# Altium footprint library PcbLib1.PcbLib: 21 footprints (part 1 of 2)
Each footprint in its own frame and in the unit in brackets; x right, y up, seen from the top. Pads: shape width x height; smd on the part's side, far side on the other; paste and mask are expansions set on the pad; w line width, h text height; cw(c..) or ccw(c..) is an arc to the next point about the centre after c.
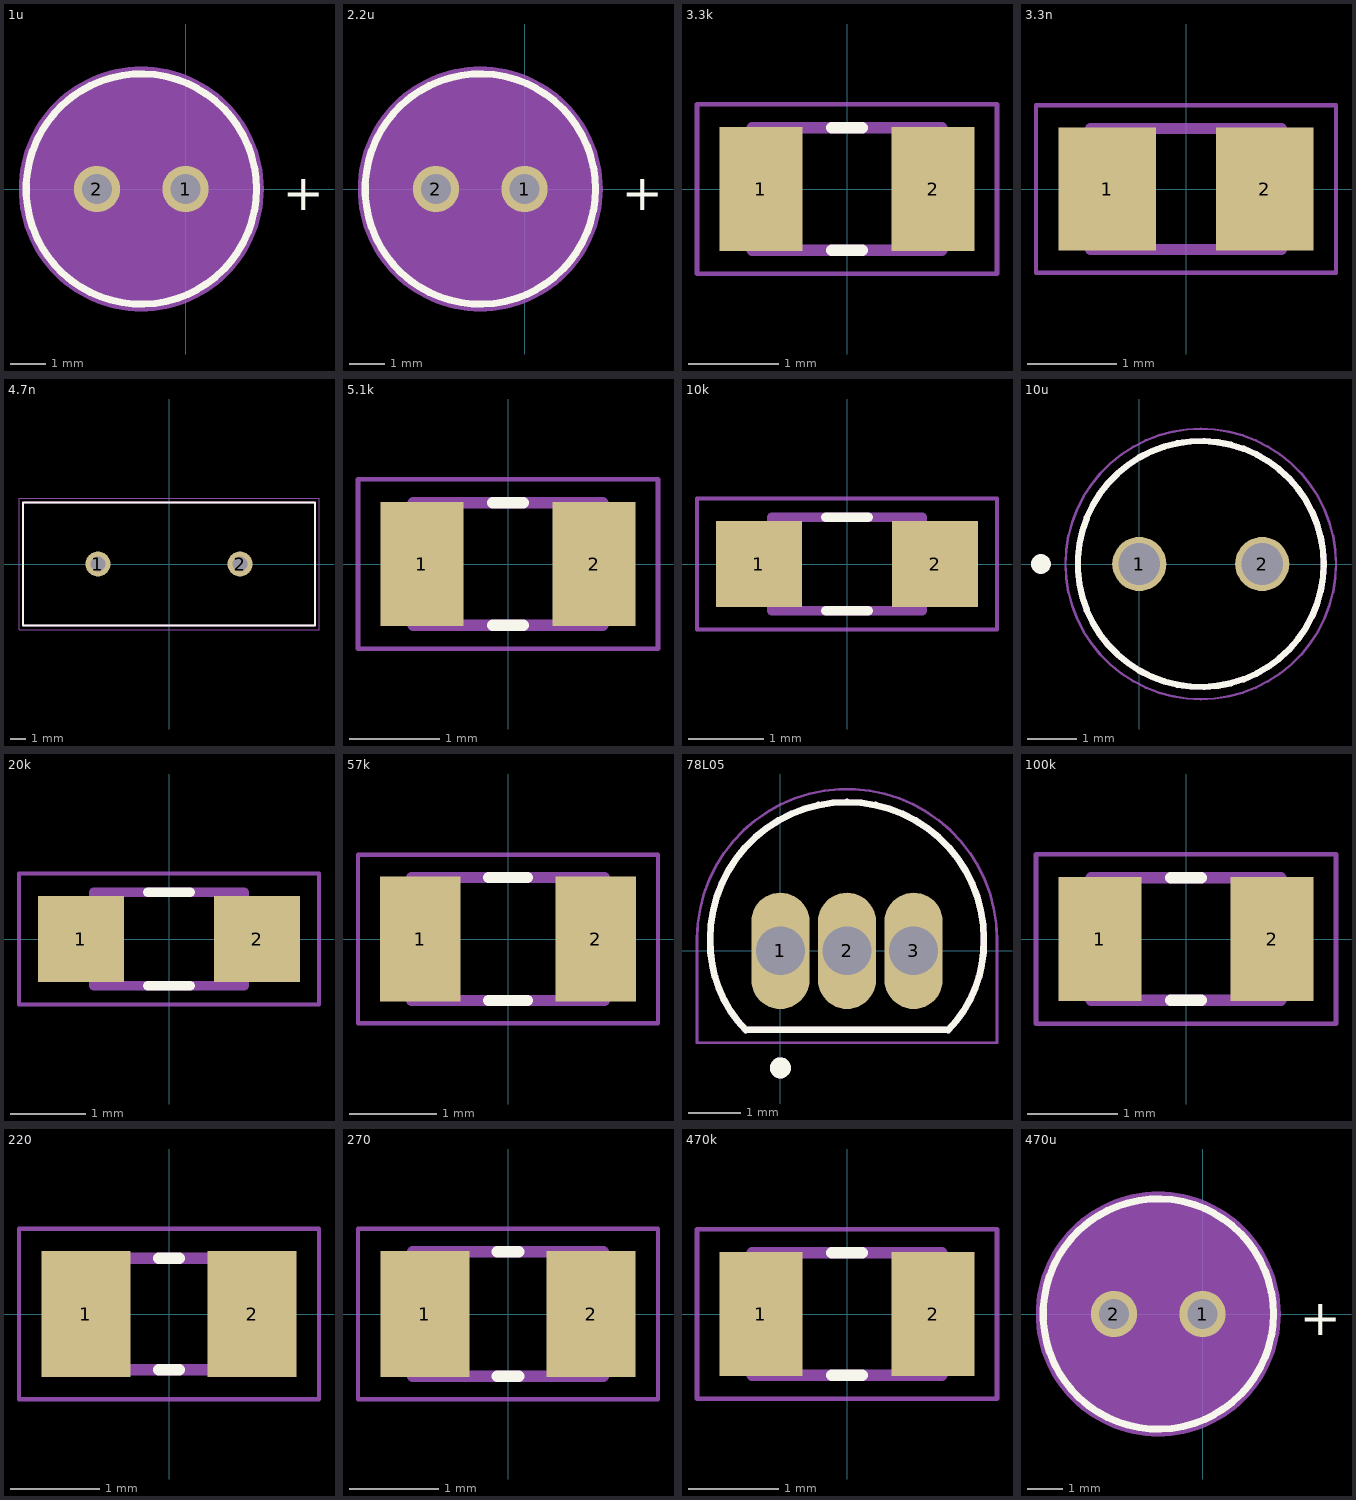
[diagram p0: the footprints below, top view; thin cyan lines are the x and y axes]

## 1u [mm]
pads (2):
  round 1.308 hole 0.85 mask+0.102: 1(0,0) 2(-2.5,0)
Top Overlay:
  circle w0.2: c-1.25,0 r3.25
  text "+" at 2.75,-0.6 h1.02
Mechanical 13:
  circle w0.1: c-1.25,0 r3.15
  text "+" at 2.75,-0.6 h1.02
Mechanical 15:
  region: -1.069,3.445 -0.889,3.431 -0.71,3.408 -0.533,3.375 -0.357,3.332 -0.184,3.281 -0.014,3.221 0.153,3.152 0.316,3.074 0.475,2.988 0.629,2.893 0.778,2.791 0.921,2.681 1.059,2.564 1.19,2.44 1.314,2.309 1.431,2.171 1.541,2.028 1.643,1.879 1.738,1.725 1.824,1.566 1.902,1.403 1.971,1.236 2.031,1.066 2.082,0.893 2.125,0.717 2.158,0.54 2.181,0.361 2.195,0.181 2.2,0 2.195,-0.181 2.181,-0.361 2.158,-0.54 2.125,-0.717 2.082,-0.893 2.031,-1.066 1.971,-1.236 1.902,-1.403 1.824,-1.566 1.738,-1.725 1.643,-1.879 1.541,-2.028 1.431,-2.171 1.314,-2.309 1.19,-2.44 1.059,-2.564 0.921,-2.681 0.778,-2.791 0.629,-2.893 0.475,-2.988 0.316,-3.074 0.153,-3.152 -0.014,-3.221 -0.184,-3.281 -0.357,-3.332 -0.533,-3.375 -0.71,-3.408 -0.889,-3.431 -1.069,-3.445 -1.25,-3.45 -1.431,-3.445 -1.611,-3.431 -1.79,-3.408 -1.967,-3.375 -2.143,-3.332 -2.316,-3.281 -2.486,-3.221 -2.653,-3.152 -2.816,-3.074 -2.975,-2.988 -3.129,-2.893 -3.278,-2.791 -3.421,-2.681 -3.559,-2.564 -3.69,-2.44 -3.814,-2.309 -3.931,-2.171 -4.041,-2.028 -4.143,-1.879 -4.238,-1.725 -4.324,-1.566 -4.402,-1.403 -4.471,-1.236 -4.531,-1.066 -4.582,-0.893 -4.625,-0.717 -4.658,-0.54 -4.681,-0.361 -4.695,-0.181 -4.7,0 -4.695,0.181 -4.681,0.361 -4.658,0.54 -4.625,0.717 -4.582,0.893 -4.531,1.066 -4.471,1.236 -4.402,1.403 -4.324,1.566 -4.238,1.725 -4.143,1.879 -4.041,2.028 -3.931,2.171 -3.814,2.309 -3.69,2.44 -3.559,2.564 -3.421,2.681 -3.278,2.791 -3.129,2.893 -2.975,2.988 -2.816,3.074 -2.653,3.152 -2.486,3.221 -2.316,3.281 -2.143,3.332 -1.967,3.375 -1.79,3.408 -1.611,3.431 -1.431,3.445 -1.25,3.45
3D body "step_temp.STEP": height 10.89, standoff -20.11, extent -4.39,-3.15 1.894,3.138

## 2.2u [mm]
pads (2):
  round 1.308 hole 0.85 mask+0.102: 1(0,0) 2(-2.5,0)
Top Overlay:
  circle w0.2: c-1.25,0 r3.25
  text "+" at 2.75,-0.6 h1.02
Mechanical 13:
  circle w0.1: c-1.25,0 r3.15
  text "+" at 2.75,-0.6 h1.02
Mechanical 15:
  region: -1.069,3.445 -0.889,3.431 -0.71,3.408 -0.533,3.375 -0.357,3.332 -0.184,3.281 -0.014,3.221 0.153,3.152 0.316,3.074 0.475,2.988 0.629,2.893 0.778,2.791 0.921,2.681 1.059,2.564 1.19,2.44 1.314,2.309 1.431,2.171 1.541,2.028 1.643,1.879 1.738,1.725 1.824,1.566 1.902,1.403 1.971,1.236 2.031,1.066 2.082,0.893 2.125,0.717 2.158,0.54 2.181,0.361 2.195,0.181 2.2,0 2.195,-0.181 2.181,-0.361 2.158,-0.54 2.125,-0.717 2.082,-0.893 2.031,-1.066 1.971,-1.236 1.902,-1.403 1.824,-1.566 1.738,-1.725 1.643,-1.879 1.541,-2.028 1.431,-2.171 1.314,-2.309 1.19,-2.44 1.059,-2.564 0.921,-2.681 0.778,-2.791 0.629,-2.893 0.475,-2.988 0.316,-3.074 0.153,-3.152 -0.014,-3.221 -0.184,-3.281 -0.357,-3.332 -0.533,-3.375 -0.71,-3.408 -0.889,-3.431 -1.069,-3.445 -1.25,-3.45 -1.431,-3.445 -1.611,-3.431 -1.79,-3.408 -1.967,-3.375 -2.143,-3.332 -2.316,-3.281 -2.486,-3.221 -2.653,-3.152 -2.816,-3.074 -2.975,-2.988 -3.129,-2.893 -3.278,-2.791 -3.421,-2.681 -3.559,-2.564 -3.69,-2.44 -3.814,-2.309 -3.931,-2.171 -4.041,-2.028 -4.143,-1.879 -4.238,-1.725 -4.324,-1.566 -4.402,-1.403 -4.471,-1.236 -4.531,-1.066 -4.582,-0.893 -4.625,-0.717 -4.658,-0.54 -4.681,-0.361 -4.695,-0.181 -4.7,0 -4.695,0.181 -4.681,0.361 -4.658,0.54 -4.625,0.717 -4.582,0.893 -4.531,1.066 -4.471,1.236 -4.402,1.403 -4.324,1.566 -4.238,1.725 -4.143,1.879 -4.041,2.028 -3.931,2.171 -3.814,2.309 -3.69,2.44 -3.559,2.564 -3.421,2.681 -3.278,2.791 -3.129,2.893 -2.975,2.988 -2.816,3.074 -2.653,3.152 -2.486,3.221 -2.316,3.281 -2.143,3.332 -1.967,3.375 -1.79,3.408 -1.611,3.431 -1.431,3.445 -1.25,3.45
3D body "step_temp.STEP": height 10.89, standoff -20.11, extent -4.39,-3.15 1.894,3.138

## 3.3k [mm]
pads (2):
  rect 0.92x1.38 smd: 1(-0.955,0) 2(0.955,0)
Top Overlay:
  lines w0.127: -0.17,-0.68 0.17,-0.68 ; -0.17,0.68 0.17,0.68
Mechanical 13:
  lines w0.127: -1.05,-0.68 1.05,-0.68 1.05,0.68 -1.05,0.68 -1.05,-0.68
Mechanical 15:
  lines w0.05: -1.665,-0.94 1.665,-0.94 1.665,0.94 -1.665,0.94 -1.665,-0.94
3D body "step_temp.STEP": height 0.6, standoff 0, extent -1,-0.625 1,0.625

## 3.3n [mm]
pads (2):
  rect 1.1x1.38 smd paste+0 mask+0.102: 1(-0.885,0) 2(0.885,0)
Mechanical 13:
  lines w0.127: -1.07,-0.68 1.07,-0.68 1.07,0.68 -1.07,0.68 -1.07,-0.68
Mechanical 15:
  lines w0.05: -1.685,-0.94 1.685,-0.94 1.685,0.94 -1.685,0.94 -1.685,-0.94
3D body "step_temp.STEP": height 1.35, standoff 0, extent -1,-0.625 1,0.625

## 4.7n [mm]
pads (2):
  round 1.575 hole 0.95: 1(-4.5,0) 2(4.5,0)
Top Overlay:
  lines w0.127: -9.25,-3.9 -9.25,3.9 9.25,3.9 9.25,-3.9 -9.25,-3.9
Mechanical 13:
  lines w0.127: -9.25,-3.9 -9.25,3.9 9.25,3.9 9.25,-3.9 -9.25,-3.9
Mechanical 15:
  lines w0.05: -9.5,-4.15 -9.5,4.15 9.5,4.15 9.5,-4.15 -9.5,-4.15

## 5.1k [mm]
pads (2):
  rect 0.92x1.38 smd: 1(-0.955,0) 2(0.955,0)
Top Overlay:
  lines w0.127: -0.17,-0.68 0.17,-0.68 ; -0.17,0.68 0.17,0.68
Mechanical 13:
  lines w0.127: -1.05,-0.68 -1.05,0.68 1.05,0.68 1.05,-0.68 -1.05,-0.68
Mechanical 15:
  lines w0.05: -1.665,-0.94 -1.665,0.94 1.665,0.94 1.665,-0.94 -1.665,-0.94
3D body "RC0805FR-075K1L.STEP": height 0.6, standoff 0, extent -1,-0.625 1,0.625

## 10k [mm]
pads (2):
  rect 1.15x1.15 smd: 1(-1.175,0) 2(1.175,0)
Top Overlay:
  lines w0.127: -0.28,-0.625 0.28,-0.625 ; -0.28,0.625 0.28,0.625
Mechanical 13:
  lines w0.127: -1,-0.625 -1,0.625 1,0.625 1,-0.625 -1,-0.625
Mechanical 15:
  lines w0.05: -2,-0.875 -2,0.875 2,0.875 2,-0.875 -2,-0.875
3D body "ERA-6ARW103V.STEP": height 0.6, standoff 0, extent -1,-0.625 1,0.625

## 10u [mm]
pads (2):
  round 1.1 hole 0.85: 1(0,0) 2(2.5,0)
Top Overlay:
  circle w0.2: c-2,0 r0.1
  circle w0.127: c1.25,0 r2.5
Mechanical 13:
  circle w0.2: c-2,0 r0.1
  circle w0.127: c1.25,0 r2.5
Mechanical 15:
  circle w0.05: c1.25,0 r2.75
3D body "step_temp.STEP": height 11, standoff -17, extent -1.25,-2.498 3.75,2.498

## 20k [mm]
pads (2):
  rect 1.15x1.15 smd: 1(-1.175,0) 2(1.175,0)
Top Overlay:
  lines w0.127: -0.28,-0.625 0.28,-0.625 ; -0.28,0.625 0.28,0.625
Mechanical 13:
  lines w0.127: -1,-0.625 1,-0.625 1,0.625 -1,0.625 -1,-0.625
Mechanical 15:
  lines w0.05: -2,-0.875 2,-0.875 2,0.875 -2,0.875 -2,-0.875
3D body "step_temp.STEP": height 0.6, standoff 0, extent -1,-0.625 1,0.625

## 57k [mm]
pads (2):
  rect 0.92x1.42 smd paste+0 mask+0.102: 1(-1,0) 2(1,0)
Top Overlay:
  lines w0.127: -0.22,-0.7 0.22,-0.7 ; -0.22,0.7 0.22,0.7
Mechanical 13:
  lines w0.127: -1.1,-0.7 1.1,-0.7 1.1,0.7 -1.1,0.7 -1.1,-0.7
Mechanical 15:
  lines w0.05: -1.71,-0.96 1.71,-0.96 1.71,0.96 -1.71,0.96 -1.71,-0.96
3D body "step_temp.STEP": height 0.5, standoff 0, extent -1,-0.625 1,0.625

## 78L05 [mm]
pads (3):
  oval 1.11x2.22 hole 0.93: 1(0,0) 2(1.27,0) 3(2.54,0)
Top Overlay:
  circle w0.2: c0,-2.232 r0.1
  lines w0.127: -1.34,0.213 ccw(c1.088,0.17) -0.659,-1.517 ; -1.34,0.226 cw(c1.27,0.226) 3.88,0.226 ; -0.673,-1.503 3.213,-1.503 ; 3.199,-1.517 ccw(c1.452,0.17) 3.88,0.213
Mechanical 13:
  circle w0.2: c0,-2.232 r0.1
  lines w0.127: -1.34,0.213 ccw(c1.088,0.17) -0.659,-1.517 ; -1.34,0.226 cw(c1.27,0.226) 3.88,0.226 ; -0.673,-1.503 3.213,-1.503 ; 3.199,-1.517 ccw(c1.452,0.17) 3.88,0.213
Mechanical 15:
  lines w0.05: -1.59,0.225 cw(c1.27,0.225) 4.13,0.225 ; -1.59,0.232 -1.59,-1.753 4.13,-1.753 4.13,0.232
3D body "step_temp.STEP": height 7.35, standoff -10.69, extent -1.14,-1.33 3.68,2.35

## 100k [mm]
pads (2):
  rect 0.92x1.38 smd: 1(-0.955,0) 2(0.955,0)
Top Overlay:
  lines w0.127: -0.17,-0.68 0.17,-0.68 ; -0.17,0.68 0.17,0.68
Mechanical 13:
  lines w0.127: -1.05,-0.68 1.05,-0.68 1.05,0.68 -1.05,0.68 -1.05,-0.68
Mechanical 15:
  lines w0.05: -1.665,-0.94 1.665,-0.94 1.665,0.94 -1.665,0.94 -1.665,-0.94
3D body "step_temp.STEP": height 0.6, standoff 0, extent -1,-0.625 1,0.625

## 220 [mm]
pads (2):
  rect 1x1.42 smd: 1(-0.935,0) 2(0.935,0)
Top Overlay:
  lines w0.127: -0.115,-0.625 0.115,-0.625 ; -0.115,0.625 0.115,0.625
Mechanical 13:
  lines w0.127: -1,-0.625 -1,0.625 1,0.625 1,-0.625 -1,-0.625
Mechanical 15:
  lines w0.05: -1.685,-0.96 -1.685,0.96 1.685,0.96 1.685,-0.96 -1.685,-0.96
3D body "step_temp.STEP": height 0.65, standoff 0, extent -1,-0.625 1,0.625

## 270 [mm]
pads (2):
  rect 1x1.42 smd paste+0 mask+0.102: 1(-0.935,0) 2(0.935,0)
Top Overlay:
  lines w0.127: -0.12,-0.7 0.12,-0.7 ; -0.12,0.7 0.12,0.7
Mechanical 13:
  lines w0.127: -1.07,-0.7 1.07,-0.7 1.07,0.7 -1.07,0.7 -1.07,-0.7
Mechanical 15:
  lines w0.05: -1.685,-0.96 1.685,-0.96 1.685,0.96 -1.685,0.96 -1.685,-0.96
3D body "step_temp.STEP": height 0.65, standoff 0, extent -1,-0.625 1,0.625

## 470k [mm]
pads (2):
  rect 0.92x1.38 smd paste+0 mask+0.102: 1(-0.955,0) 2(0.955,0)
Top Overlay:
  lines w0.127: -0.17,-0.68 0.17,-0.68 ; -0.17,0.68 0.17,0.68
Mechanical 13:
  lines w0.127: -1.05,-0.68 -1.05,0.68 1.05,0.68 1.05,-0.68 -1.05,-0.68
Mechanical 15:
  lines w0.05: -1.665,-0.94 -1.665,0.94 1.665,0.94 1.665,-0.94 -1.665,-0.94
3D body "step_temp.STEP": height 0.6, standoff 0, extent -1,-0.625 1,0.625

## 470u [mm]
pads (2):
  round 1.308 hole 0.85 mask+0.102: 1(0,0) 2(-2.5,0)
Top Overlay:
  circle w0.2: c-1.25,0 r3.25
  text "+" at 2.75,-0.6 h1.02
Mechanical 13:
  circle w0.1: c-1.25,0 r3.15
  text "+" at 2.75,-0.6 h1.02
Mechanical 15:
  region: -1.069,3.445 -0.889,3.431 -0.71,3.408 -0.533,3.375 -0.357,3.332 -0.184,3.281 -0.014,3.221 0.153,3.152 0.316,3.074 0.475,2.988 0.629,2.893 0.778,2.791 0.921,2.681 1.059,2.564 1.19,2.44 1.314,2.309 1.431,2.171 1.541,2.028 1.643,1.879 1.738,1.725 1.824,1.566 1.902,1.403 1.971,1.236 2.031,1.066 2.082,0.893 2.125,0.717 2.158,0.54 2.181,0.361 2.195,0.181 2.2,0 2.195,-0.181 2.181,-0.361 2.158,-0.54 2.125,-0.717 2.082,-0.893 2.031,-1.066 1.971,-1.236 1.902,-1.403 1.824,-1.566 1.738,-1.725 1.643,-1.879 1.541,-2.028 1.431,-2.171 1.314,-2.309 1.19,-2.44 1.059,-2.564 0.921,-2.681 0.778,-2.791 0.629,-2.893 0.475,-2.988 0.316,-3.074 0.153,-3.152 -0.014,-3.221 -0.184,-3.281 -0.357,-3.332 -0.533,-3.375 -0.71,-3.408 -0.889,-3.431 -1.069,-3.445 -1.25,-3.45 -1.431,-3.445 -1.611,-3.431 -1.79,-3.408 -1.967,-3.375 -2.143,-3.332 -2.316,-3.281 -2.486,-3.221 -2.653,-3.152 -2.816,-3.074 -2.975,-2.988 -3.129,-2.893 -3.278,-2.791 -3.421,-2.681 -3.559,-2.564 -3.69,-2.44 -3.814,-2.309 -3.931,-2.171 -4.041,-2.028 -4.143,-1.879 -4.238,-1.725 -4.324,-1.566 -4.402,-1.403 -4.471,-1.236 -4.531,-1.066 -4.582,-0.893 -4.625,-0.717 -4.658,-0.54 -4.681,-0.361 -4.695,-0.181 -4.7,0 -4.695,0.181 -4.681,0.361 -4.658,0.54 -4.625,0.717 -4.582,0.893 -4.531,1.066 -4.471,1.236 -4.402,1.403 -4.324,1.566 -4.238,1.725 -4.143,1.879 -4.041,2.028 -3.931,2.171 -3.814,2.309 -3.69,2.44 -3.559,2.564 -3.421,2.681 -3.278,2.791 -3.129,2.893 -2.975,2.988 -2.816,3.074 -2.653,3.152 -2.486,3.221 -2.316,3.281 -2.143,3.332 -1.967,3.375 -1.79,3.408 -1.611,3.431 -1.431,3.445 -1.25,3.45
3D body "step_temp.STEP": height 10.89, standoff -20.11, extent -4.39,-3.15 1.894,3.138